# Altium schematic symbol library PE42420D-Z.SchLib: 2 symbols
Pins are listed as number, name and electrical type; pins without a type are passive.

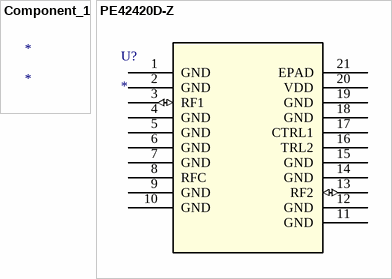
[diagram p0: symbols Component_1 to PE42420D-Z]

## Component_1
designator *

## PE42420D-Z
designator U?
No Description Available; Mfr_Name: pSemi; RefDes: RefDes; Type: Type
footprint LGA20_4X4_PSM
pins: 1 GND (power), 2 GND (power), 3 RF1 (io), 4 GND (power), 5 GND (power), 6 GND (power), 7 GND (power), 8 RFC, 9 GND (power), 10 GND (power), 11 GND (power), 12 GND (power), 13 RF2 (io), 14 GND (power), 15 GND (power), 16 TRL2, 17 CTRL1, 18 GND (power), 19 GND (power), 20 VDD (power), 21 EPAD